# Altium footprint library SOP254P960X420-4N.PcbLib: 1 footprints
Each footprint in its own frame and in the unit in brackets; x right, y up, seen from the top. Pads: shape width x height; smd on the part's side, far side on the other; paste and mask are expansions set on the pad; w line width, h text height; cw(c..) or ccw(c..) is an arc to the next point about the centre after c.
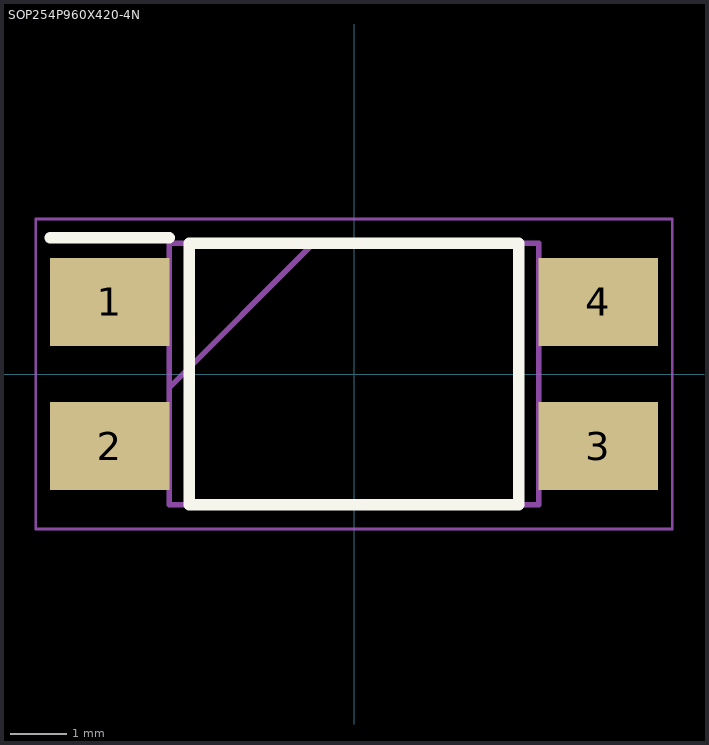
[diagram p0: the footprint, top view; thin cyan lines are the x and y axes]

## SOP254P960X420-4N [mm]
pads (4):
  rect 2.1x1.55 smd: 1(-4.3,1.27) 2(-4.3,-1.27) 3(4.3,-1.27) 4(4.3,1.27)
Top Overlay:
  lines w0.2: -5.35,2.395 -3.25,2.395 ; -2.9,-2.3 2.9,-2.3 2.9,2.3 -2.9,2.3 -2.9,-2.3
Mechanical 15:
  lines w0.1: -3.25,-0.24 -0.71,2.3 ; -3.25,-2.3 3.25,-2.3 3.25,2.3 -3.25,2.3 -3.25,-2.3
Mechanical 20:
  lines w0.05: -5.6,-2.725 5.6,-2.725 5.6,2.725 -5.6,2.725 -5.6,-2.725